# EAGLE library part PWR_REG_BUCK_TPS56637RPAR (library !GPLIB_ACTIVE)
4.5-V to 28-V Input, 6-A Synchronous Buck Converter
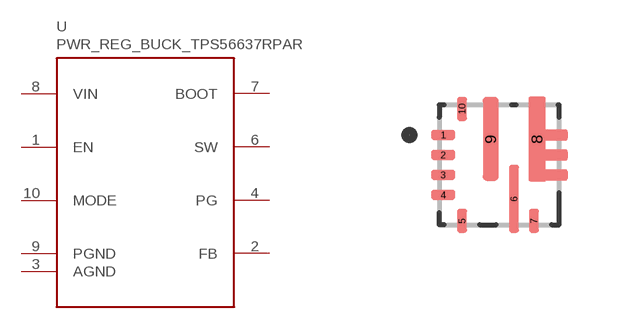
[diagram p88: symbol with the pads of QFN_10P(3X3)HOTROD; footprint QFN_10P(3X3)HOTROD]

Designator prefix U

## PWR_REG_BUCK_TPS56637RPAR_TPS56637RPAR  [QFN_10P(3X3)HOTROD]
1  EN  in
2  FB  in
3  AGND  pwr
4  PG  out
6  SW  out
7  BOOT  in
8  VIN  pwr
9  PGND  pwr
10  MODE  in

## Footprint QFN_10P(3X3)HOTROD (pad centres in mm)
10-Pin 3.0-mm × 3.0-mm HotRod™ QFN Package
smd 0.6 x 0.25: 1 -1.4,0.75; 2 -1.4,0.25; 3 -1.4,-0.25; 4 -1.4,-0.75
smd 0.25 x 0.6: 5 -0.93,-1.4; 7 0.87,-1.4; 10 -0.93,1.4
smd 0.25 x 1.7: 6 0.37,-0.85
smd 0.4 x 2.1: 8 0.95,0.65; 9 -0.21,0.65